# Altium schematic symbol library sch_library.SchLib: 4 symbols
Pins are listed as number, name and electrical type; pins without a type are passive.

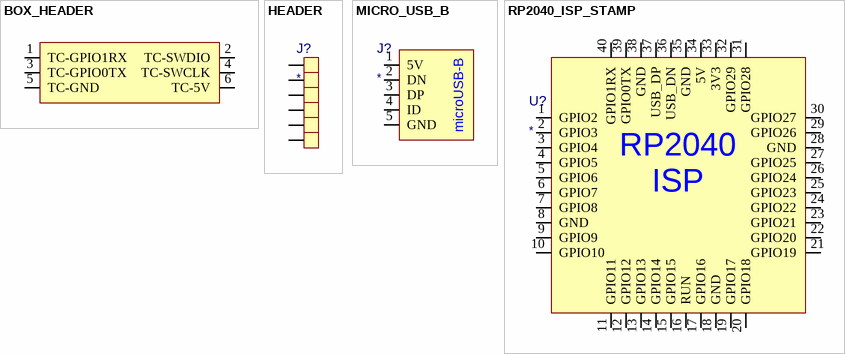
[diagram p0: symbols BOX_HEADER to RP2040_ISP_STAMP]

## BOX_HEADER
designator J?  (value not drawn)
Connector Header Through Hole 6 position 0.100" (2.54mm); Supplier 1: Digi-Key; Supplier Part Number 1: 732-5394-ND
footprint BOX_HEADER
pins: 1 TC-GPIO1RX, 2 TC-SWDIO, 3 TC-GPIO0TX, 4 TC-SWCLK, 5 TC-GND, 6 TC-5V

## HEADER
designator J?  (no BOM)
footprint Header_1x6
pins: 1, 2, 3, 4, 5, 6

## MICRO_USB_B
designator J?
USB - micro B Receptacle Connector 5 Position Board Edge, Cutout; Surface Mount, Right Angle; Supplier 1: Digi-Key; Supplier Part Number 1: WM1398CT-ND
footprint MICRO_USB_B
pins: 1 5V, 2 DN, 3 DP, 4 ID, 5 GND
text: microUSB-B

## RP2040_ISP_STAMP
designator U?  (no BOM)
footprint RP2040_ISP_STAMP
pins: 1 GPIO2, 2 GPIO3, 3 GPIO4, 4 GPIO5, 5 GPIO6, 6 GPIO7, 7 GPIO8, 8 GND, 9 GPIO9, 10 GPIO10, 11 GPIO11, 12 GPIO12, 13 GPIO13, 14 GPIO14, 15 GPIO15, 16 RUN, 17 GPIO16, 18 GND, 19 GPIO17, 20 GPIO18, 21 GPIO19, 22 GPIO20, 23 GPIO21, 24 GPIO22, 25 GPIO23, 26 GPIO24, 27 GPIO25, 28 GND, 29 GPIO26, 30 GPIO27, 31 GPIO28, 32 GPIO29, 33 3V3, 34 5V, 35 GND, 36 USB_DN, 37 USB_DP, 38 GND, 39 GPIO0TX, 40 GPIO1RX
text: RP2040 / ISP / STAMP